# Altium integrated library WCAP-ASLU_rev15a.intlib: 55 symbols (part 1 of 2)
Pins are listed as number, name and electrical type; pins without a type are passive.

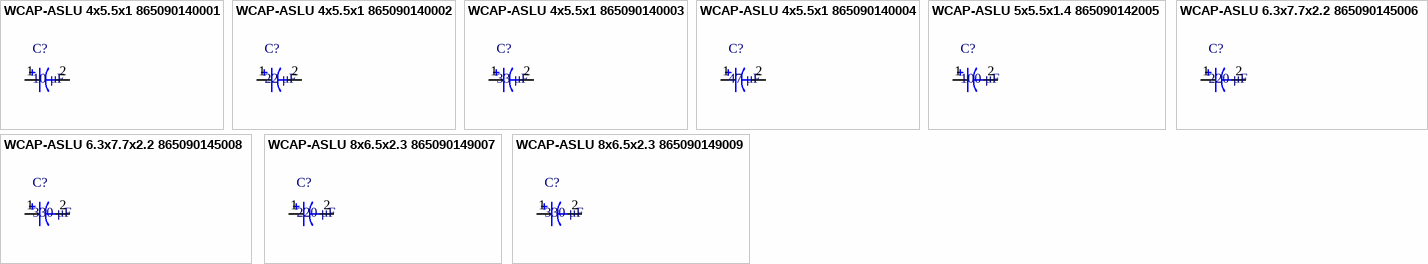
[diagram p0: symbols WCAP-ASLU 4x5.5x1 865090140001 to WCAP-ASLU 8x6.5x2.3 865090149009]

## WCAP-ASLU 4x5.5x1 865090140001
designator C?, comment 10 μF
WCAP-ASLU Aluminum Electrolytic Capacitors , 10 μF; + / - 20%; 6,3 V , 4 x 5,5; Manufacturer: Wurth Elektronik; partNo: 865090140001; E-mail: libraries@we-online.com; Characteristics: Aluminum Electrolytic Capacitor;Recommended soldering: Reflow;Operating temperature: –40 °C to +85 °C;Low leakage current product series;Load life: 1000 h @ +85 °C; ComponentLink1Description: Manufacturer; ComponentLink1URL: http://www.we-online.com; ComponentLink2Description: Datasheet; ComponentLink2URL: http://katalog.we-online.de/pbs/datasheet/865090140001.pdf; Created by: Karrer Zheng; Created Date: 5/13/2015; Capacitance: 10 μF; Application: Applied to loop with low requirements for leakage current, applied to general switching power supply, timer circuit, power module, DC-DC conversion adapter, charger, limited power supply of TV and VCR, audio equipment, digital TV, digital camera, digital video camera, satellite receiver.
footprint WCAP-ASLU 4x5.5x1
pins: 1, 2

## WCAP-ASLU 4x5.5x1 865090140002
designator C?, comment 22 μF
WCAP-ASLU Aluminum Electrolytic Capacitors , 22 μF; + / - 20%; 6,3 V , 4 x 5,5; Manufacturer: Wurth Elektronik; partNo: 865090140002; E-mail: libraries@we-online.com; Characteristics: Aluminum Electrolytic Capacitor;Recommended soldering: Reflow;Operating temperature: –40 °C to +85 °C;Low leakage current product series;Load life: 1000 h @ +85 °C; ComponentLink1Description: Manufacturer; ComponentLink1URL: http://www.we-online.com; ComponentLink2Description: Datasheet; ComponentLink2URL: http://katalog.we-online.de/pbs/datasheet/865090140002.pdf; Created by: Karrer Zheng; Created Date: 5/13/2015; Capacitance: 22 μF; Application: Applied to loop with low requirements for leakage current, applied to general switching power supply, timer circuit, power module, DC-DC conversion adapter, charger, limited power supply of TV and VCR, audio equipment, digital TV, digital camera, digital video camera, satellite receiver.
footprint WCAP-ASLU 4x5.5x1
pins: 1, 2

## WCAP-ASLU 4x5.5x1 865090140003
designator C?, comment 33 μF
WCAP-ASLU Aluminum Electrolytic Capacitors , 33 μF; + / - 20%; 6,3 V , 4 x 5,5; Manufacturer: Wurth Elektronik; partNo: 865090140003; E-mail: libraries@we-online.com; Characteristics: Aluminum Electrolytic Capacitor;Recommended soldering: Reflow;Operating temperature: –40 °C to +85 °C;Low leakage current product series;Load life: 1000 h @ +85 °C; ComponentLink1Description: Manufacturer; ComponentLink1URL: http://www.we-online.com; ComponentLink2Description: Datasheet; ComponentLink2URL: http://katalog.we-online.de/pbs/datasheet/865090140003.pdf; Created by: Karrer Zheng; Created Date: 5/13/2015; Capacitance: 33 μF; Application: Applied to loop with low requirements for leakage current, applied to general switching power supply, timer circuit, power module, DC-DC conversion adapter, charger, limited power supply of TV and VCR, audio equipment, digital TV, digital camera, digital video camera, satellite receiver.
footprint WCAP-ASLU 4x5.5x1
pins: 1, 2

## WCAP-ASLU 4x5.5x1 865090140004
designator C?, comment 47 μF
WCAP-ASLU Aluminum Electrolytic Capacitors , 47 μF; + / - 20%; 6,3 V , 4 x 5,5; Manufacturer: Wurth Elektronik; partNo: 865090140004; E-mail: libraries@we-online.com; Characteristics: Aluminum Electrolytic Capacitor;Recommended soldering: Reflow;Operating temperature: –40 °C to +85 °C;Low leakage current product series;Load life: 1000 h @ +85 °C; ComponentLink1Description: Manufacturer; ComponentLink1URL: http://www.we-online.com; ComponentLink2Description: Datasheet; ComponentLink2URL: http://katalog.we-online.de/pbs/datasheet/865090140004.pdf; Created by: Karrer Zheng; Created Date: 5/13/2015; Capacitance: 47 μF; Application: Applied to loop with low requirements for leakage current, applied to general switching power supply, timer circuit, power module, DC-DC conversion adapter, charger, limited power supply of TV and VCR, audio equipment, digital TV, digital camera, digital video camera, satellite receiver.
footprint WCAP-ASLU 4x5.5x1
pins: 1, 2

## WCAP-ASLU 5x5.5x1.4 865090142005
designator C?, comment 100 μF
WCAP-ASLU Aluminum Electrolytic Capacitors , 100 μF; + / - 20%; 6,3 V , 5 x 5,5; Manufacturer: Wurth Elektronik; partNo: 865090142005; E-mail: libraries@we-online.com; Characteristics: Aluminum Electrolytic Capacitor;Recommended soldering: Reflow;Operating temperature: –40 °C to +85 °C;Low leakage current product series;Load life: 1000 h @ +85 °C; ComponentLink1Description: Manufacturer; ComponentLink1URL: http://www.we-online.com; ComponentLink2Description: Datasheet; ComponentLink2URL: http://katalog.we-online.de/pbs/datasheet/865090142005.pdf; Created by: Karrer Zheng; Created Date: 5/13/2015; Capacitance: 100 μF; Application: Applied to loop with low requirements for leakage current, applied to general switching power supply, timer circuit, power module, DC-DC conversion adapter, charger, limited power supply of TV and VCR, audio equipment, digital TV, digital camera, digital video camera, satellite receiver.
footprint WCAP-ASLU 5x5.5x1.4
pins: 1, 2

## WCAP-ASLU 6.3x7.7x2.2 865090145006
designator C?, comment 220 μF
WCAP-ASLU Aluminum Electrolytic Capacitors , 220 μF; + / - 20%; 6,3 V , 6,3 x 7,7; Manufacturer: Wurth Elektronik; partNo: 865090145006; E-mail: libraries@we-online.com; Characteristics: Aluminum Electrolytic Capacitor;Recommended soldering: Reflow;Operating temperature: –40 °C to +85 °C;Low leakage current product series;Load life: 1000 h @ +85 °C; ComponentLink1Description: Manufacturer; ComponentLink1URL: http://www.we-online.com; ComponentLink2Description: Datasheet; ComponentLink2URL: http://katalog.we-online.de/pbs/datasheet/865090145006.pdf; Created by: Karrer Zheng; Created Date: 5/13/2015; Capacitance: 220 μF; Application: Applied to loop with low requirements for leakage current, applied to general switching power supply, timer circuit, power module, DC-DC conversion adapter, charger, limited power supply of TV and VCR, audio equipment, digital TV, digital camera, digital video camera, satellite receiver.
footprint WCAP-ASLU 6.3x7.7x2.2
pins: 1, 2

## WCAP-ASLU 6.3x7.7x2.2 865090145008
designator C?, comment 330 μF
WCAP-ASLU Aluminum Electrolytic Capacitors , 330 μF; + / - 20%; 6,3 V , 6,3 x 7,7; Manufacturer: Wurth Elektronik; partNo: 865090145008; E-mail: libraries@we-online.com; Characteristics: Aluminum Electrolytic Capacitor;Recommended soldering: Reflow;Operating temperature: –40 °C to +85 °C;Low leakage current product series;Load life: 1000 h @ +85 °C; ComponentLink1Description: Manufacturer; ComponentLink1URL: http://www.we-online.com; ComponentLink2Description: Datasheet; ComponentLink2URL: http://katalog.we-online.de/pbs/datasheet/865090145008.pdf; Created by: Karrer Zheng; Created Date: 5/13/2015; Capacitance: 330 μF; Application: Applied to loop with low requirements for leakage current, applied to general switching power supply, timer circuit, power module, DC-DC conversion adapter, charger, limited power supply of TV and VCR, audio equipment, digital TV, digital camera, digital video camera, satellite receiver.
footprint WCAP-ASLU 6.3x7.7x2.2
pins: 1, 2

## WCAP-ASLU 8x6.5x2.3 865090149007
designator C?, comment 220 μF
WCAP-ASLU Aluminum Electrolytic Capacitors , 220 μF; + / - 20%; 6,3 V , 8 x 6,5; Manufacturer: Wurth Elektronik; partNo: 865090149007; E-mail: libraries@we-online.com; Characteristics: Aluminum Electrolytic Capacitor;Recommended soldering: Reflow;Operating temperature: –40 °C to +85 °C;Low leakage current product series;Load life: 1000 h @ +85 °C; ComponentLink1Description: Manufacturer; ComponentLink1URL: http://www.we-online.com; ComponentLink2Description: Datasheet; ComponentLink2URL: http://katalog.we-online.de/pbs/datasheet/865090149007.pdf; Created by: Karrer Zheng; Created Date: 5/13/2015; Capacitance: 220 μF; Application: Applied to loop with low requirements for leakage current, applied to general switching power supply, timer circuit, power module, DC-DC conversion adapter, charger, limited power supply of TV and VCR, audio equipment, digital TV, digital camera, digital video camera, satellite receiver.
footprint WCAP-ASLU 8x6.5x2.3
pins: 1, 2

## WCAP-ASLU 8x6.5x2.3 865090149009
designator C?, comment 330 μF
WCAP-ASLU Aluminum Electrolytic Capacitors , 330 μF; + / - 20%; 6,3 V , 8 x 6,5; Manufacturer: Wurth Elektronik; partNo: 865090149009; E-mail: libraries@we-online.com; Characteristics: Aluminum Electrolytic Capacitor;Recommended soldering: Reflow;Operating temperature: –40 °C to +85 °C;Low leakage current product series;Load life: 1000 h @ +85 °C; ComponentLink1Description: Manufacturer; ComponentLink1URL: http://www.we-online.com; ComponentLink2Description: Datasheet; ComponentLink2URL: http://katalog.we-online.de/pbs/datasheet/865090149009.pdf; Created by: Karrer Zheng; Created Date: 5/13/2015; Capacitance: 330 μF; Application: Applied to loop with low requirements for leakage current, applied to general switching power supply, timer circuit, power module, DC-DC conversion adapter, charger, limited power supply of TV and VCR, audio equipment, digital TV, digital camera, digital video camera, satellite receiver.
footprint WCAP-ASLU 8x6.5x2.3
pins: 1, 2


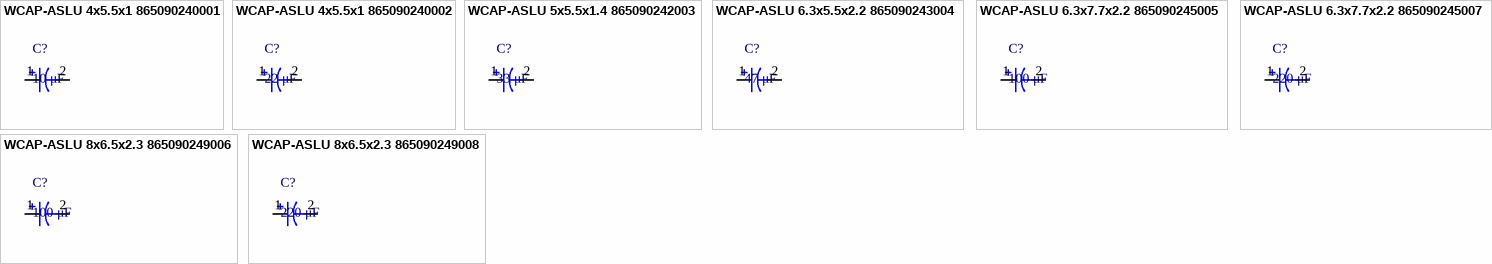
[diagram p1: symbols WCAP-ASLU 4x5.5x1 865090240001 to WCAP-ASLU 8x6.5x2.3 865090249008]

## WCAP-ASLU 4x5.5x1 865090240001
designator C?, comment 10 μF
WCAP-ASLU Aluminum Electrolytic Capacitors , 10 μF; + / - 20%; 10 V , 4 x 5,5; Manufacturer: Wurth Elektronik; partNo: 865090240001; E-mail: libraries@we-online.com; Characteristics: Aluminum Electrolytic Capacitor;Recommended soldering: Reflow;Operating temperature: –40 °C to +85 °C;Low leakage current product series;Load life: 1000 h @ +85 °C; ComponentLink1Description: Manufacturer; ComponentLink1URL: http://www.we-online.com; ComponentLink2Description: Datasheet; ComponentLink2URL: http://katalog.we-online.de/pbs/datasheet/865090240001.pdf; Created by: Karrer Zheng; Created Date: 5/13/2015; Capacitance: 10 μF; Application: Applied to loop with low requirements for leakage current, applied to general switching power supply, timer circuit, power module, DC-DC conversion adapter, charger, limited power supply of TV and VCR, audio equipment, digital TV, digital camera, digital video camera, satellite receiver.
footprint WCAP-ASLU 4x5.5x1
pins: 1, 2

## WCAP-ASLU 4x5.5x1 865090240002
designator C?, comment 22 μF
WCAP-ASLU Aluminum Electrolytic Capacitors , 22 μF; + / - 20%; 10 V , 4 x 5,5; Manufacturer: Wurth Elektronik; partNo: 865090240002; E-mail: libraries@we-online.com; Characteristics: Aluminum Electrolytic Capacitor;Recommended soldering: Reflow;Operating temperature: –40 °C to +85 °C;Low leakage current product series;Load life: 1000 h @ +85 °C; ComponentLink1Description: Manufacturer; ComponentLink1URL: http://www.we-online.com; ComponentLink2Description: Datasheet; ComponentLink2URL: http://katalog.we-online.de/pbs/datasheet/865090240002.pdf; Created by: Karrer Zheng; Created Date: 5/13/2015; Capacitance: 22 μF; Application: Applied to loop with low requirements for leakage current, applied to general switching power supply, timer circuit, power module, DC-DC conversion adapter, charger, limited power supply of TV and VCR, audio equipment, digital TV, digital camera, digital video camera, satellite receiver.
footprint WCAP-ASLU 4x5.5x1
pins: 1, 2

## WCAP-ASLU 5x5.5x1.4 865090242003
designator C?, comment 33 μF
WCAP-ASLU Aluminum Electrolytic Capacitors , 33 μF; + / - 20%; 10 V , 5 x 5,5; Manufacturer: Wurth Elektronik; partNo: 865090242003; E-mail: libraries@we-online.com; Characteristics: Aluminum Electrolytic Capacitor;Recommended soldering: Reflow;Operating temperature: –40 °C to +85 °C;Low leakage current product series;Load life: 1000 h @ +85 °C; ComponentLink1Description: Manufacturer; ComponentLink1URL: http://www.we-online.com; ComponentLink2Description: Datasheet; ComponentLink2URL: http://katalog.we-online.de/pbs/datasheet/865090242003.pdf; Created by: Karrer Zheng; Created Date: 5/13/2015; Capacitance: 33 μF; Application: Applied to loop with low requirements for leakage current, applied to general switching power supply, timer circuit, power module, DC-DC conversion adapter, charger, limited power supply of TV and VCR, audio equipment, digital TV, digital camera, digital video camera, satellite receiver.
footprint WCAP-ASLU 5x5.5x1.4
pins: 1, 2

## WCAP-ASLU 6.3x5.5x2.2 865090243004
designator C?, comment 47 μF
WCAP-ASLU Aluminum Electrolytic Capacitors , 47 μF; + / - 20%; 10 V , 6,3 x 5,5; Manufacturer: Wurth Elektronik; partNo: 865090243004; E-mail: libraries@we-online.com; Characteristics: Aluminum Electrolytic Capacitor;Recommended soldering: Reflow;Operating temperature: –40 °C to +85 °C;Low leakage current product series;Load life: 1000 h @ +85 °C; ComponentLink1Description: Manufacturer; ComponentLink1URL: http://www.we-online.com; ComponentLink2Description: Datasheet; ComponentLink2URL: http://katalog.we-online.de/pbs/datasheet/865090243004.pdf; Created by: Karrer Zheng; Created Date: 5/13/2015; Capacitance: 47 μF; Application: Applied to loop with low requirements for leakage current, applied to general switching power supply, timer circuit, power module, DC-DC conversion adapter, charger, limited power supply of TV and VCR, audio equipment, digital TV, digital camera, digital video camera, satellite receiver.
footprint WCAP-ASLU 6.3x5.5x2.2
pins: 1, 2

## WCAP-ASLU 6.3x7.7x2.2 865090245005
designator C?, comment 100 μF
WCAP-ASLU Aluminum Electrolytic Capacitors , 100 μF; + / - 20%; 10 V , 6,3 x 7,7; Manufacturer: Wurth Elektronik; partNo: 865090245005; E-mail: libraries@we-online.com; Characteristics: Aluminum Electrolytic Capacitor;Recommended soldering: Reflow;Operating temperature: –40 °C to +85 °C;Low leakage current product series;Load life: 1000 h @ +85 °C; ComponentLink1Description: Manufacturer; ComponentLink1URL: http://www.we-online.com; ComponentLink2Description: Datasheet; ComponentLink2URL: http://katalog.we-online.de/pbs/datasheet/865090245005.pdf; Created by: Karrer Zheng; Created Date: 5/13/2015; Capacitance: 100 μF; Application: Applied to loop with low requirements for leakage current, applied to general switching power supply, timer circuit, power module, DC-DC conversion adapter, charger, limited power supply of TV and VCR, audio equipment, digital TV, digital camera, digital video camera, satellite receiver.
footprint WCAP-ASLU 6.3x7.7x2.2
pins: 1, 2

## WCAP-ASLU 6.3x7.7x2.2 865090245007
designator C?, comment 220 μF
WCAP-ASLU Aluminum Electrolytic Capacitors , 220 μF; + / - 20%; 10 V , 6,3 x 7,7; Manufacturer: Wurth Elektronik; partNo: 865090245007; E-mail: libraries@we-online.com; Characteristics: Aluminum Electrolytic Capacitor;Recommended soldering: Reflow;Operating temperature: –40 °C to +85 °C;Low leakage current product series;Load life: 1000 h @ +85 °C; ComponentLink1Description: Manufacturer; ComponentLink1URL: http://www.we-online.com; ComponentLink2Description: Datasheet; ComponentLink2URL: http://katalog.we-online.de/pbs/datasheet/865090245007.pdf; Created by: Karrer Zheng; Created Date: 5/13/2015; Capacitance: 220 μF; Application: Applied to loop with low requirements for leakage current, applied to general switching power supply, timer circuit, power module, DC-DC conversion adapter, charger, limited power supply of TV and VCR, audio equipment, digital TV, digital camera, digital video camera, satellite receiver.
footprint WCAP-ASLU 6.3x7.7x2.2
pins: 1, 2

## WCAP-ASLU 8x6.5x2.3 865090249006
designator C?, comment 100 μF
WCAP-ASLU Aluminum Electrolytic Capacitors , 100 μF; + / - 20%; 10 V , 8 x 6,5; Manufacturer: Wurth Elektronik; partNo: 865090249006; E-mail: libraries@we-online.com; Characteristics: Aluminum Electrolytic Capacitor;Recommended soldering: Reflow;Operating temperature: –40 °C to +85 °C;Low leakage current product series;Load life: 1000 h @ +85 °C; ComponentLink1Description: Manufacturer; ComponentLink1URL: http://www.we-online.com; ComponentLink2Description: Datasheet; ComponentLink2URL: http://katalog.we-online.de/pbs/datasheet/865090249006.pdf; Created by: Karrer Zheng; Created Date: 5/13/2015; Capacitance: 100 μF; Application: Applied to loop with low requirements for leakage current, applied to general switching power supply, timer circuit, power module, DC-DC conversion adapter, charger, limited power supply of TV and VCR, audio equipment, digital TV, digital camera, digital video camera, satellite receiver.
footprint WCAP-ASLU 8x6.5x2.3
pins: 1, 2

## WCAP-ASLU 8x6.5x2.3 865090249008
designator C?, comment 220 μF
WCAP-ASLU Aluminum Electrolytic Capacitors , 220 μF; + / - 20%; 10 V , 8 x 6,5; Manufacturer: Wurth Elektronik; partNo: 865090249008; E-mail: libraries@we-online.com; Characteristics: Aluminum Electrolytic Capacitor;Recommended soldering: Reflow;Operating temperature: –40 °C to +85 °C;Low leakage current product series;Load life: 1000 h @ +85 °C; ComponentLink1Description: Manufacturer; ComponentLink1URL: http://www.we-online.com; ComponentLink2Description: Datasheet; ComponentLink2URL: http://katalog.we-online.de/pbs/datasheet/865090249008.pdf; Created by: Karrer Zheng; Created Date: 5/13/2015; Capacitance: 220 μF; Application: Applied to loop with low requirements for leakage current, applied to general switching power supply, timer circuit, power module, DC-DC conversion adapter, charger, limited power supply of TV and VCR, audio equipment, digital TV, digital camera, digital video camera, satellite receiver.
footprint WCAP-ASLU 8x6.5x2.3
pins: 1, 2


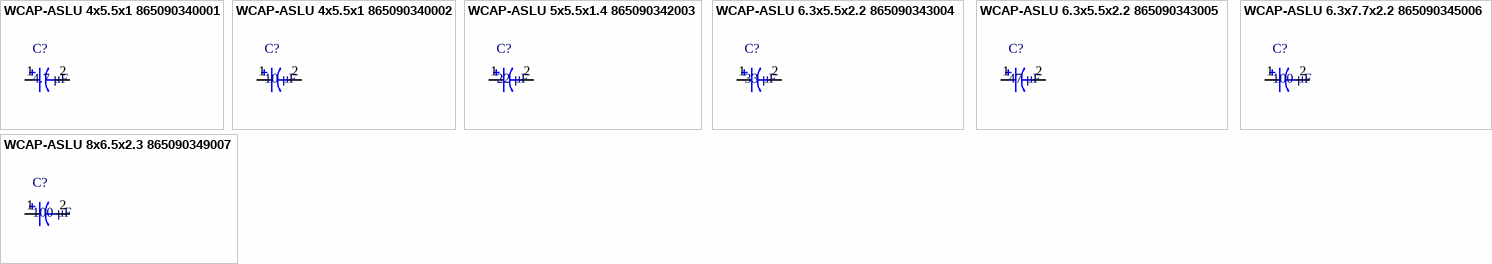
[diagram p2: symbols WCAP-ASLU 4x5.5x1 865090340001 to WCAP-ASLU 8x6.5x2.3 865090349007]

## WCAP-ASLU 4x5.5x1 865090340001
designator C?, comment 4.7 μF
WCAP-ASLU Aluminum Electrolytic Capacitors , 4,7 μF; + / - 20%; 16 V , 4 x 5,5; Manufacturer: Wurth Elektronik; partNo: 865090340001; E-mail: libraries@we-online.com; Characteristics: Aluminum Electrolytic Capacitor;Recommended soldering: Reflow;Operating temperature: –40 °C to +85 °C;Low leakage current product series;Load life: 1000 h @ +85 °C; ComponentLink1Description: Manufacturer; ComponentLink1URL: http://www.we-online.com; ComponentLink2Description: Datasheet; ComponentLink2URL: http://katalog.we-online.de/pbs/datasheet/865090340001.pdf; Created by: Karrer Zheng; Created Date: 5/13/2015; Capacitance: 4.7 μF; Application: Applied to loop with low requirements for leakage current, applied to general switching power supply, timer circuit, power module, DC-DC conversion adapter, charger, limited power supply of TV and VCR, audio equipment, digital TV, digital camera, digital video camera, satellite receiver.
footprint WCAP-ASLU 4x5.5x1
pins: 1, 2

## WCAP-ASLU 4x5.5x1 865090340002
designator C?, comment 10 μF
WCAP-ASLU Aluminum Electrolytic Capacitors , 10 μF; + / - 20%; 16 V , 4 x 5,5; Manufacturer: Wurth Elektronik; partNo: 865090340002; E-mail: libraries@we-online.com; Characteristics: Aluminum Electrolytic Capacitor;Recommended soldering: Reflow;Operating temperature: –40 °C to +85 °C;Low leakage current product series;Load life: 1000 h @ +85 °C; ComponentLink1Description: Manufacturer; ComponentLink1URL: http://www.we-online.com; ComponentLink2Description: Datasheet; ComponentLink2URL: http://katalog.we-online.de/pbs/datasheet/865090340002.pdf; Created by: Karrer Zheng; Created Date: 5/13/2015; Capacitance: 10 μF; Application: Applied to loop with low requirements for leakage current, applied to general switching power supply, timer circuit, power module, DC-DC conversion adapter, charger, limited power supply of TV and VCR, audio equipment, digital TV, digital camera, digital video camera, satellite receiver.
footprint WCAP-ASLU 4x5.5x1
pins: 1, 2

## WCAP-ASLU 5x5.5x1.4 865090342003
designator C?, comment 22 μF
WCAP-ASLU Aluminum Electrolytic Capacitors , 22 μF; + / - 20%; 16 V , 5 x 5,5; Manufacturer: Wurth Elektronik; partNo: 865090342003; E-mail: libraries@we-online.com; Characteristics: Aluminum Electrolytic Capacitor;Recommended soldering: Reflow;Operating temperature: –40 °C to +85 °C;Low leakage current product series;Load life: 1000 h @ +85 °C; ComponentLink1Description: Manufacturer; ComponentLink1URL: http://www.we-online.com; ComponentLink2Description: Datasheet; ComponentLink2URL: http://katalog.we-online.de/pbs/datasheet/865090342003.pdf; Created by: Karrer Zheng; Created Date: 5/13/2015; Capacitance: 22 μF; Application: Applied to loop with low requirements for leakage current, applied to general switching power supply, timer circuit, power module, DC-DC conversion adapter, charger, limited power supply of TV and VCR, audio equipment, digital TV, digital camera, digital video camera, satellite receiver.
footprint WCAP-ASLU 5x5.5x1.4
pins: 1, 2

## WCAP-ASLU 6.3x5.5x2.2 865090343004
designator C?, comment 33 μF
WCAP-ASLU Aluminum Electrolytic Capacitors , 33 μF; + / - 20%; 16 V , 6,3 x 5,5; Manufacturer: Wurth Elektronik; partNo: 865090343004; E-mail: libraries@we-online.com; Characteristics: Aluminum Electrolytic Capacitor;Recommended soldering: Reflow;Operating temperature: –40 °C to +85 °C;Low leakage current product series;Load life: 1000 h @ +85 °C; ComponentLink1Description: Manufacturer; ComponentLink1URL: http://www.we-online.com; ComponentLink2Description: Datasheet; ComponentLink2URL: http://katalog.we-online.de/pbs/datasheet/865090343004.pdf; Created by: Karrer Zheng; Created Date: 5/13/2015; Capacitance: 33 μF; Application: Applied to loop with low requirements for leakage current, applied to general switching power supply, timer circuit, power module, DC-DC conversion adapter, charger, limited power supply of TV and VCR, audio equipment, digital TV, digital camera, digital video camera, satellite receiver.
footprint WCAP-ASLU 6.3x5.5x2.2
pins: 1, 2

## WCAP-ASLU 6.3x5.5x2.2 865090343005
designator C?, comment 47 μF
WCAP-ASLU Aluminum Electrolytic Capacitors , 47 μF; + / - 20%; 16 V , 6,3 x 5,5; Manufacturer: Wurth Elektronik; partNo: 865090343005; E-mail: libraries@we-online.com; Characteristics: Aluminum Electrolytic Capacitor;Recommended soldering: Reflow;Operating temperature: –40 °C to +85 °C;Low leakage current product series;Load life: 1000 h @ +85 °C; ComponentLink1Description: Manufacturer; ComponentLink1URL: http://www.we-online.com; ComponentLink2Description: Datasheet; ComponentLink2URL: http://katalog.we-online.de/pbs/datasheet/865090343005.pdf; Created by: Karrer Zheng; Created Date: 5/13/2015; Capacitance: 47 μF; Application: Applied to loop with low requirements for leakage current, applied to general switching power supply, timer circuit, power module, DC-DC conversion adapter, charger, limited power supply of TV and VCR, audio equipment, digital TV, digital camera, digital video camera, satellite receiver.
footprint WCAP-ASLU 6.3x5.5x2.2
pins: 1, 2

## WCAP-ASLU 6.3x7.7x2.2 865090345006
designator C?, comment 100 μF
WCAP-ASLU Aluminum Electrolytic Capacitors , 100 μF; + / - 20%; 16 V , 6,3 x 7,7; Manufacturer: Wurth Elektronik; partNo: 865090345006; E-mail: libraries@we-online.com; Characteristics: Aluminum Electrolytic Capacitor;Recommended soldering: Reflow;Operating temperature: –40 °C to +85 °C;Low leakage current product series;Load life: 1000 h @ +85 °C; ComponentLink1Description: Manufacturer; ComponentLink1URL: http://www.we-online.com; ComponentLink2Description: Datasheet; ComponentLink2URL: http://katalog.we-online.de/pbs/datasheet/865090345006.pdf; Created by: Karrer Zheng; Created Date: 5/13/2015; Capacitance: 100 μF; Application: Applied to loop with low requirements for leakage current, applied to general switching power supply, timer circuit, power module, DC-DC conversion adapter, charger, limited power supply of TV and VCR, audio equipment, digital TV, digital camera, digital video camera, satellite receiver.
footprint WCAP-ASLU 6.3x7.7x2.2
pins: 1, 2

## WCAP-ASLU 8x6.5x2.3 865090349007
designator C?, comment 100 μF
WCAP-ASLU Aluminum Electrolytic Capacitors , 100 μF; + / - 20%; 16 V , 8 x 6,5; Manufacturer: Wurth Elektronik; partNo: 865090349007; E-mail: libraries@we-online.com; Characteristics: Aluminum Electrolytic Capacitor;Recommended soldering: Reflow;Operating temperature: –40 °C to +85 °C;Low leakage current product series;Load life: 1000 h @ +85 °C; ComponentLink1Description: Manufacturer; ComponentLink1URL: http://www.we-online.com; ComponentLink2Description: Datasheet; ComponentLink2URL: http://katalog.we-online.de/pbs/datasheet/865090349007.pdf; Created by: Karrer Zheng; Created Date: 5/13/2015; Capacitance: 100 μF; Application: Applied to loop with low requirements for leakage current, applied to general switching power supply, timer circuit, power module, DC-DC conversion adapter, charger, limited power supply of TV and VCR, audio equipment, digital TV, digital camera, digital video camera, satellite receiver.
footprint WCAP-ASLU 8x6.5x2.3
pins: 1, 2


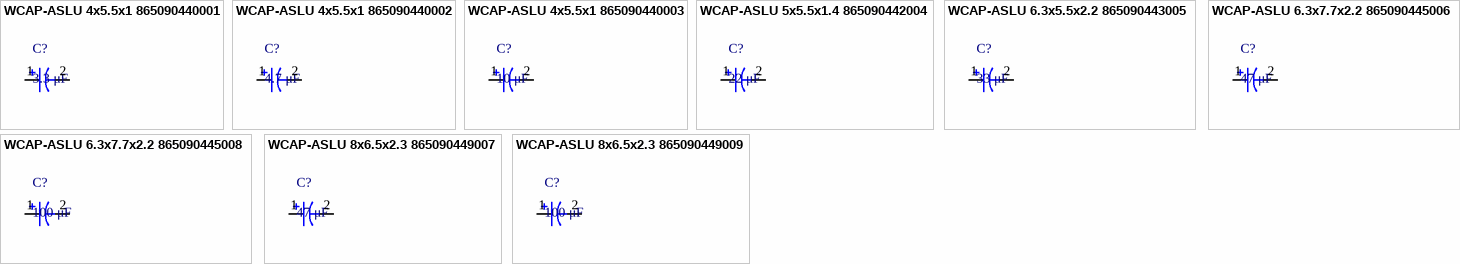
[diagram p3: symbols WCAP-ASLU 4x5.5x1 865090440001 to WCAP-ASLU 8x6.5x2.3 865090449009]

## WCAP-ASLU 4x5.5x1 865090440001
designator C?, comment 3.3 μF
WCAP-ASLU Aluminum Electrolytic Capacitors , 3,3 μF; + / - 20%; 25 V , 4 x 5,5; Manufacturer: Wurth Elektronik; partNo: 865090440001; E-mail: libraries@we-online.com; Characteristics: Aluminum Electrolytic Capacitor;Recommended soldering: Reflow;Operating temperature: –40 °C to +85 °C;Low leakage current product series;Load life: 1000 h @ +85 °C; ComponentLink1Description: Manufacturer; ComponentLink1URL: http://www.we-online.com; ComponentLink2Description: Datasheet; ComponentLink2URL: http://katalog.we-online.de/pbs/datasheet/865090440001.pdf; Created by: Karrer Zheng; Created Date: 5/13/2015; Capacitance: 3.3 μF; Application: Applied to loop with low requirements for leakage current, applied to general switching power supply, timer circuit, power module, DC-DC conversion adapter, charger, limited power supply of TV and VCR, audio equipment, digital TV, digital camera, digital video camera, satellite receiver.
footprint WCAP-ASLU 4x5.5x1
pins: 1, 2

## WCAP-ASLU 4x5.5x1 865090440002
designator C?, comment 4.7 μF
WCAP-ASLU Aluminum Electrolytic Capacitors , 4,7 μF; + / - 20%; 25 V , 4 x 5,5; Manufacturer: Wurth Elektronik; partNo: 865090440002; E-mail: libraries@we-online.com; Characteristics: Aluminum Electrolytic Capacitor;Recommended soldering: Reflow;Operating temperature: –40 °C to +85 °C;Low leakage current product series;Load life: 1000 h @ +85 °C; ComponentLink1Description: Manufacturer; ComponentLink1URL: http://www.we-online.com; ComponentLink2Description: Datasheet; ComponentLink2URL: http://katalog.we-online.de/pbs/datasheet/865090440002.pdf; Created by: Karrer Zheng; Created Date: 5/13/2015; Capacitance: 4.7 μF; Application: Applied to loop with low requirements for leakage current, applied to general switching power supply, timer circuit, power module, DC-DC conversion adapter, charger, limited power supply of TV and VCR, audio equipment, digital TV, digital camera, digital video camera, satellite receiver.
footprint WCAP-ASLU 4x5.5x1
pins: 1, 2

## WCAP-ASLU 4x5.5x1 865090440003
designator C?, comment 10 μF
WCAP-ASLU Aluminum Electrolytic Capacitors , 10 μF; + / - 20%; 25 V , 4 x 5,5; Manufacturer: Wurth Elektronik; partNo: 865090440003; E-mail: libraries@we-online.com; Characteristics: Aluminum Electrolytic Capacitor;Recommended soldering: Reflow;Operating temperature: –40 °C to +85 °C;Low leakage current product series;Load life: 1000 h @ +85 °C; ComponentLink1Description: Manufacturer; ComponentLink1URL: http://www.we-online.com; ComponentLink2Description: Datasheet; ComponentLink2URL: http://katalog.we-online.de/pbs/datasheet/865090440003.pdf; Created by: Karrer Zheng; Created Date: 5/13/2015; Capacitance: 10 μF; Application: Applied to loop with low requirements for leakage current, applied to general switching power supply, timer circuit, power module, DC-DC conversion adapter, charger, limited power supply of TV and VCR, audio equipment, digital TV, digital camera, digital video camera, satellite receiver.
footprint WCAP-ASLU 4x5.5x1
pins: 1, 2

## WCAP-ASLU 5x5.5x1.4 865090442004
designator C?, comment 22 μF
WCAP-ASLU Aluminum Electrolytic Capacitors , 22 μF; + / - 20%; 25 V , 5 x 5,5; Manufacturer: Wurth Elektronik; partNo: 865090442004; E-mail: libraries@we-online.com; Characteristics: Aluminum Electrolytic Capacitor;Recommended soldering: Reflow;Operating temperature: –40 °C to +85 °C;Low leakage current product series;Load life: 1000 h @ +85 °C; ComponentLink1Description: Manufacturer; ComponentLink1URL: http://www.we-online.com; ComponentLink2Description: Datasheet; ComponentLink2URL: http://katalog.we-online.de/pbs/datasheet/865090442004.pdf; Created by: Karrer Zheng; Created Date: 5/13/2015; Capacitance: 22 μF; Application: Applied to loop with low requirements for leakage current, applied to general switching power supply, timer circuit, power module, DC-DC conversion adapter, charger, limited power supply of TV and VCR, audio equipment, digital TV, digital camera, digital video camera, satellite receiver.
footprint WCAP-ASLU 5x5.5x1.4
pins: 1, 2

## WCAP-ASLU 6.3x5.5x2.2 865090443005
designator C?, comment 33 μF
WCAP-ASLU Aluminum Electrolytic Capacitors , 33 μF; + / - 20%; 25 V , 6,3 x 5,5; Manufacturer: Wurth Elektronik; partNo: 865090443005; E-mail: libraries@we-online.com; Characteristics: Aluminum Electrolytic Capacitor;Recommended soldering: Reflow;Operating temperature: –40 °C to +85 °C;Low leakage current product series;Load life: 1000 h @ +85 °C; ComponentLink1Description: Manufacturer; ComponentLink1URL: http://www.we-online.com; ComponentLink2Description: Datasheet; ComponentLink2URL: http://katalog.we-online.de/pbs/datasheet/865090443005.pdf; Created by: Karrer Zheng; Created Date: 5/13/2015; Capacitance: 33 μF; Application: Applied to loop with low requirements for leakage current, applied to general switching power supply, timer circuit, power module, DC-DC conversion adapter, charger, limited power supply of TV and VCR, audio equipment, digital TV, digital camera, digital video camera, satellite receiver.
footprint WCAP-ASLU 6.3x5.5x2.2
pins: 1, 2

## WCAP-ASLU 6.3x7.7x2.2 865090445006
designator C?, comment 47 μF
WCAP-ASLU Aluminum Electrolytic Capacitors , 47 μF; + / - 20%; 25 V , 6,3 x 7,7; Manufacturer: Wurth Elektronik; partNo: 865090445006; E-mail: libraries@we-online.com; Characteristics: Aluminum Electrolytic Capacitor;Recommended soldering: Reflow;Operating temperature: –40 °C to +85 °C;Low leakage current product series;Load life: 1000 h @ +85 °C; ComponentLink1Description: Manufacturer; ComponentLink1URL: http://www.we-online.com; ComponentLink2Description: Datasheet; ComponentLink2URL: http://katalog.we-online.de/pbs/datasheet/865090445006.pdf; Created by: Karrer Zheng; Created Date: 5/13/2015; Capacitance: 47 μF; Application: Applied to loop with low requirements for leakage current, applied to general switching power supply, timer circuit, power module, DC-DC conversion adapter, charger, limited power supply of TV and VCR, audio equipment, digital TV, digital camera, digital video camera, satellite receiver.
footprint WCAP-ASLU 6.3x7.7x2.2
pins: 1, 2

## WCAP-ASLU 6.3x7.7x2.2 865090445008
designator C?, comment 100 μF
WCAP-ASLU Aluminum Electrolytic Capacitors , 100 μF; + / - 20%; 25 V , 6,3 x 7,7; Manufacturer: Wurth Elektronik; partNo: 865090445008; E-mail: libraries@we-online.com; Characteristics: Aluminum Electrolytic Capacitor;Recommended soldering: Reflow;Operating temperature: –40 °C to +85 °C;Low leakage current product series;Load life: 1000 h @ +85 °C; ComponentLink1Description: Manufacturer; ComponentLink1URL: http://www.we-online.com; ComponentLink2Description: Datasheet; ComponentLink2URL: http://katalog.we-online.de/pbs/datasheet/865090445008.pdf; Created by: Karrer Zheng; Created Date: 5/13/2015; Capacitance: 100 μF; Application: Applied to loop with low requirements for leakage current, applied to general switching power supply, timer circuit, power module, DC-DC conversion adapter, charger, limited power supply of TV and VCR, audio equipment, digital TV, digital camera, digital video camera, satellite receiver.
footprint WCAP-ASLU 6.3x7.7x2.2
pins: 1, 2

## WCAP-ASLU 8x6.5x2.3 865090449007
designator C?, comment 47 μF
WCAP-ASLU Aluminum Electrolytic Capacitors , 47 μF; + / - 20%; 25 V , 8 x 6,5; Manufacturer: Wurth Elektronik; partNo: 865090449007; E-mail: libraries@we-online.com; Characteristics: Aluminum Electrolytic Capacitor;Recommended soldering: Reflow;Operating temperature: –40 °C to +85 °C;Low leakage current product series;Load life: 1000 h @ +85 °C; ComponentLink1Description: Manufacturer; ComponentLink1URL: http://www.we-online.com; ComponentLink2Description: Datasheet; ComponentLink2URL: http://katalog.we-online.de/pbs/datasheet/865090449007.pdf; Created by: Karrer Zheng; Created Date: 5/13/2015; Capacitance: 47 μF; Application: Applied to loop with low requirements for leakage current, applied to general switching power supply, timer circuit, power module, DC-DC conversion adapter, charger, limited power supply of TV and VCR, audio equipment, digital TV, digital camera, digital video camera, satellite receiver.
footprint WCAP-ASLU 8x6.5x2.3
pins: 1, 2

## WCAP-ASLU 8x6.5x2.3 865090449009
designator C?, comment 100 μF
WCAP-ASLU Aluminum Electrolytic Capacitors , 100 μF; + / - 20%; 25 V , 8 x 6,5; Manufacturer: Wurth Elektronik; partNo: 865090449009; E-mail: libraries@we-online.com; Characteristics: Aluminum Electrolytic Capacitor;Recommended soldering: Reflow;Operating temperature: –40 °C to +85 °C;Low leakage current product series;Load life: 1000 h @ +85 °C; ComponentLink1Description: Manufacturer; ComponentLink1URL: http://www.we-online.com; ComponentLink2Description: Datasheet; ComponentLink2URL: http://katalog.we-online.de/pbs/datasheet/865090449009.pdf; Created by: Karrer Zheng; Created Date: 5/13/2015; Capacitance: 100 μF; Application: Applied to loop with low requirements for leakage current, applied to general switching power supply, timer circuit, power module, DC-DC conversion adapter, charger, limited power supply of TV and VCR, audio equipment, digital TV, digital camera, digital video camera, satellite receiver.
footprint WCAP-ASLU 8x6.5x2.3
pins: 1, 2


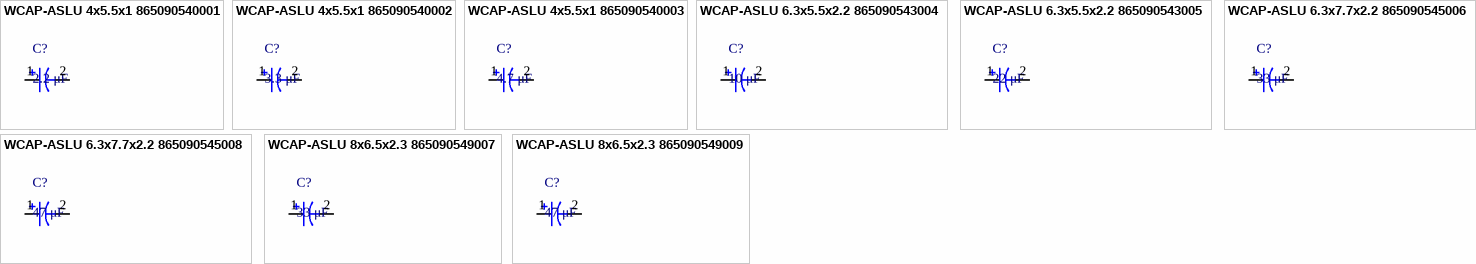
[diagram p4: symbols WCAP-ASLU 4x5.5x1 865090540001 to WCAP-ASLU 8x6.5x2.3 865090549009]

## WCAP-ASLU 4x5.5x1 865090540001
designator C?, comment 2.2 μF
WCAP-ASLU Aluminum Electrolytic Capacitors , 2,2 μF; + / - 20%; 35 V , 4 x 5,5; Manufacturer: Wurth Elektronik; partNo: 865090540001; E-mail: libraries@we-online.com; Characteristics: Aluminum Electrolytic Capacitor;Recommended soldering: Reflow;Operating temperature: –40 °C to +85 °C;Low leakage current product series;Load life: 1000 h @ +85 °C; ComponentLink1Description: Manufacturer; ComponentLink1URL: http://www.we-online.com; ComponentLink2Description: Datasheet; ComponentLink2URL: http://katalog.we-online.de/pbs/datasheet/865090540001.pdf; Created by: Karrer Zheng; Created Date: 5/13/2015; Capacitance: 2.2 μF; Application: Applied to loop with low requirements for leakage current, applied to general switching power supply, timer circuit, power module, DC-DC conversion adapter, charger, limited power supply of TV and VCR, audio equipment, digital TV, digital camera, digital video camera, satellite receiver.
footprint WCAP-ASLU 4x5.5x1
pins: 1, 2

## WCAP-ASLU 4x5.5x1 865090540002
designator C?, comment 3.3 μF
WCAP-ASLU Aluminum Electrolytic Capacitors , 3,3 μF; + / - 20%; 35 V , 4 x 5,5; Manufacturer: Wurth Elektronik; partNo: 865090540002; E-mail: libraries@we-online.com; Characteristics: Aluminum Electrolytic Capacitor;Recommended soldering: Reflow;Operating temperature: –40 °C to +85 °C;Low leakage current product series;Load life: 1000 h @ +85 °C; ComponentLink1Description: Manufacturer; ComponentLink1URL: http://www.we-online.com; ComponentLink2Description: Datasheet; ComponentLink2URL: http://katalog.we-online.de/pbs/datasheet/865090540002.pdf; Created by: Karrer Zheng; Created Date: 5/13/2015; Capacitance: 3.3 μF; Application: Applied to loop with low requirements for leakage current, applied to general switching power supply, timer circuit, power module, DC-DC conversion adapter, charger, limited power supply of TV and VCR, audio equipment, digital TV, digital camera, digital video camera, satellite receiver.
footprint WCAP-ASLU 4x5.5x1
pins: 1, 2

## WCAP-ASLU 4x5.5x1 865090540003
designator C?, comment 4.7 μF
WCAP-ASLU Aluminum Electrolytic Capacitors , 4,7 μF; + / - 20%; 35 V , 4 x 5,5; Manufacturer: Wurth Elektronik; partNo: 865090540003; E-mail: libraries@we-online.com; Characteristics: Aluminum Electrolytic Capacitor;Recommended soldering: Reflow;Operating temperature: –40 °C to +85 °C;Low leakage current product series;Load life: 1000 h @ +85 °C; ComponentLink1Description: Manufacturer; ComponentLink1URL: http://www.we-online.com; ComponentLink2Description: Datasheet; ComponentLink2URL: http://katalog.we-online.de/pbs/datasheet/865090540003.pdf; Created by: Karrer Zheng; Created Date: 5/13/2015; Capacitance: 4.7 μF; Application: Applied to loop with low requirements for leakage current, applied to general switching power supply, timer circuit, power module, DC-DC conversion adapter, charger, limited power supply of TV and VCR, audio equipment, digital TV, digital camera, digital video camera, satellite receiver.
footprint WCAP-ASLU 4x5.5x1
pins: 1, 2

## WCAP-ASLU 6.3x5.5x2.2 865090543004
designator C?, comment 10 μF
WCAP-ASLU Aluminum Electrolytic Capacitors , 10 μF; + / - 20%; 35 V , 6,3 x 5,5; Manufacturer: Wurth Elektronik; partNo: 865090543004; E-mail: libraries@we-online.com; Characteristics: Aluminum Electrolytic Capacitor;Recommended soldering: Reflow;Operating temperature: –40 °C to +85 °C;Low leakage current product series;Load life: 1000 h @ +85 °C; ComponentLink1Description: Manufacturer; ComponentLink1URL: http://www.we-online.com; ComponentLink2Description: Datasheet; ComponentLink2URL: http://katalog.we-online.de/pbs/datasheet/865090543004.pdf; Created by: Karrer Zheng; Created Date: 5/13/2015; Capacitance: 10 μF; Application: Applied to loop with low requirements for leakage current, applied to general switching power supply, timer circuit, power module, DC-DC conversion adapter, charger, limited power supply of TV and VCR, audio equipment, digital TV, digital camera, digital video camera, satellite receiver.
footprint WCAP-ASLU 6.3x5.5x2.2
pins: 1, 2

## WCAP-ASLU 6.3x5.5x2.2 865090543005
designator C?, comment 22 μF
WCAP-ASLU Aluminum Electrolytic Capacitors , 22 μF; + / - 20%; 35 V , 6,3 x 5,5; Manufacturer: Wurth Elektronik; partNo: 865090543005; E-mail: libraries@we-online.com; Characteristics: Aluminum Electrolytic Capacitor;Recommended soldering: Reflow;Operating temperature: –40 °C to +85 °C;Low leakage current product series;Load life: 1000 h @ +85 °C; ComponentLink1Description: Manufacturer; ComponentLink1URL: http://www.we-online.com; ComponentLink2Description: Datasheet; ComponentLink2URL: http://katalog.we-online.de/pbs/datasheet/865090543005.pdf; Created by: Karrer Zheng; Created Date: 5/13/2015; Capacitance: 22 μF; Application: Applied to loop with low requirements for leakage current, applied to general switching power supply, timer circuit, power module, DC-DC conversion adapter, charger, limited power supply of TV and VCR, audio equipment, digital TV, digital camera, digital video camera, satellite receiver.
footprint WCAP-ASLU 6.3x5.5x2.2
pins: 1, 2

## WCAP-ASLU 6.3x7.7x2.2 865090545006
designator C?, comment 33 μF
WCAP-ASLU Aluminum Electrolytic Capacitors , 33 μF; + / - 20%; 35 V , 6,3 x 7,7; Manufacturer: Wurth Elektronik; partNo: 865090545006; E-mail: libraries@we-online.com; Characteristics: Aluminum Electrolytic Capacitor;Recommended soldering: Reflow;Operating temperature: –40 °C to +85 °C;Low leakage current product series;Load life: 1000 h @ +85 °C; ComponentLink1Description: Manufacturer; ComponentLink1URL: http://www.we-online.com; ComponentLink2Description: Datasheet; ComponentLink2URL: http://katalog.we-online.de/pbs/datasheet/865090545006.pdf; Created by: Karrer Zheng; Created Date: 5/13/2015; Capacitance: 33 μF; Application: Applied to loop with low requirements for leakage current, applied to general switching power supply, timer circuit, power module, DC-DC conversion adapter, charger, limited power supply of TV and VCR, audio equipment, digital TV, digital camera, digital video camera, satellite receiver.
footprint WCAP-ASLU 6.3x7.7x2.2
pins: 1, 2

## WCAP-ASLU 6.3x7.7x2.2 865090545008
designator C?, comment 47 μF
WCAP-ASLU Aluminum Electrolytic Capacitors , 47 μF; + / - 20%; 35 V , 6,3 x 7,7; Manufacturer: Wurth Elektronik; partNo: 865090545008; E-mail: libraries@we-online.com; Characteristics: Aluminum Electrolytic Capacitor;Recommended soldering: Reflow;Operating temperature: –40 °C to +85 °C;Low leakage current product series;Load life: 1000 h @ +85 °C; ComponentLink1Description: Manufacturer; ComponentLink1URL: http://www.we-online.com; ComponentLink2Description: Datasheet; ComponentLink2URL: http://katalog.we-online.de/pbs/datasheet/865090545008.pdf; Created by: Karrer Zheng; Created Date: 5/13/2015; Capacitance: 47 μF; Application: Applied to loop with low requirements for leakage current, applied to general switching power supply, timer circuit, power module, DC-DC conversion adapter, charger, limited power supply of TV and VCR, audio equipment, digital TV, digital camera, digital video camera, satellite receiver.
footprint WCAP-ASLU 6.3x7.7x2.2
pins: 1, 2

## WCAP-ASLU 8x6.5x2.3 865090549007
designator C?, comment 33 μF
WCAP-ASLU Aluminum Electrolytic Capacitors , 33 μF; + / - 20%; 35 V , 8 x 6,5; Manufacturer: Wurth Elektronik; partNo: 865090549007; E-mail: libraries@we-online.com; Characteristics: Aluminum Electrolytic Capacitor;Recommended soldering: Reflow;Operating temperature: –40 °C to +85 °C;Low leakage current product series;Load life: 1000 h @ +85 °C; ComponentLink1Description: Manufacturer; ComponentLink1URL: http://www.we-online.com; ComponentLink2Description: Datasheet; ComponentLink2URL: http://katalog.we-online.de/pbs/datasheet/865090549007.pdf; Created by: Karrer Zheng; Created Date: 5/13/2015; Capacitance: 33 μF; Application: Applied to loop with low requirements for leakage current, applied to general switching power supply, timer circuit, power module, DC-DC conversion adapter, charger, limited power supply of TV and VCR, audio equipment, digital TV, digital camera, digital video camera, satellite receiver.
footprint WCAP-ASLU 8x6.5x2.3
pins: 1, 2

## WCAP-ASLU 8x6.5x2.3 865090549009
designator C?, comment 47 μF
WCAP-ASLU Aluminum Electrolytic Capacitors , 47 μF; + / - 20%; 35 V , 8 x 6,5; Manufacturer: Wurth Elektronik; partNo: 865090549009; E-mail: libraries@we-online.com; Characteristics: Aluminum Electrolytic Capacitor;Recommended soldering: Reflow;Operating temperature: –40 °C to +85 °C;Low leakage current product series;Load life: 1000 h @ +85 °C; ComponentLink1Description: Manufacturer; ComponentLink1URL: http://www.we-online.com; ComponentLink2Description: Datasheet; ComponentLink2URL: http://katalog.we-online.de/pbs/datasheet/865090549009.pdf; Created by: Karrer Zheng; Created Date: 5/13/2015; Capacitance: 47 μF; Application: Applied to loop with low requirements for leakage current, applied to general switching power supply, timer circuit, power module, DC-DC conversion adapter, charger, limited power supply of TV and VCR, audio equipment, digital TV, digital camera, digital video camera, satellite receiver.
footprint WCAP-ASLU 8x6.5x2.3
pins: 1, 2


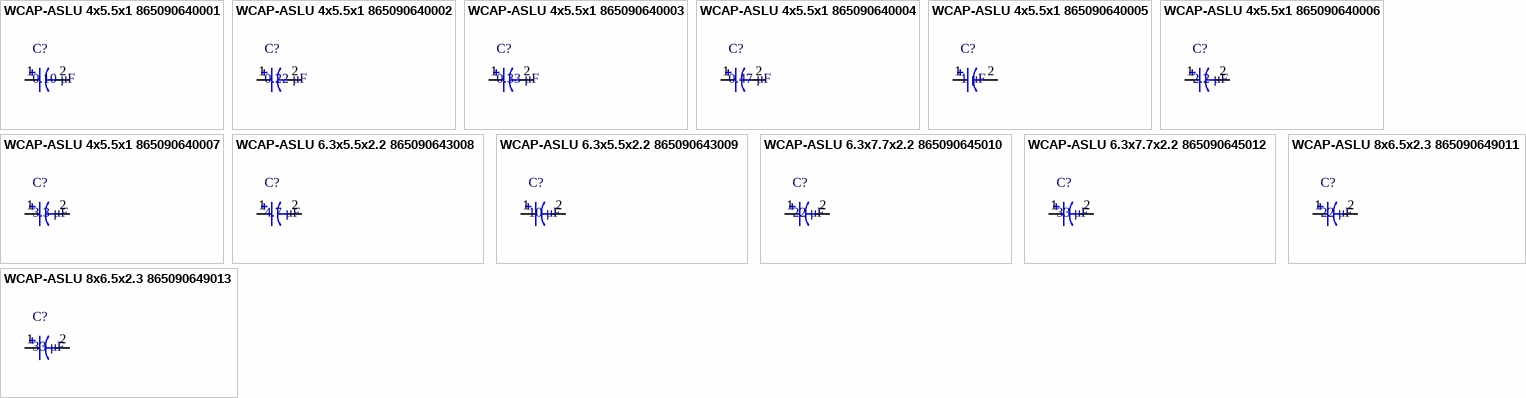
[diagram p5: symbols WCAP-ASLU 4x5.5x1 865090640001 to WCAP-ASLU 8x6.5x2.3 865090649013]

## WCAP-ASLU 4x5.5x1 865090640001
designator C?, comment 0.10 μF
WCAP-ASLU Aluminum Electrolytic Capacitors , 0,10 μF; + / - 20%; 50 V , 4 x 5,5; Manufacturer: Wurth Elektronik; partNo: 865090640001; E-mail: libraries@we-online.com; Characteristics: Aluminum Electrolytic Capacitor;Recommended soldering: Reflow;Operating temperature: –40 °C to +85 °C;Low leakage current product series;Load life: 1000 h @ +85 °C; ComponentLink1Description: Manufacturer; ComponentLink1URL: http://www.we-online.com; ComponentLink2Description: Datasheet; ComponentLink2URL: http://katalog.we-online.de/pbs/datasheet/865090640001.pdf; Created by: Karrer Zheng; Created Date: 5/13/2015; Capacitance: 0.10 μF; Application: Applied to loop with low requirements for leakage current, applied to general switching power supply, timer circuit, power module, DC-DC conversion adapter, charger, limited power supply of TV and VCR, audio equipment, digital TV, digital camera, digital video camera, satellite receiver.
footprint WCAP-ASLU 4x5.5x1
pins: 1, 2

## WCAP-ASLU 4x5.5x1 865090640002
designator C?, comment 0.22 μF
WCAP-ASLU Aluminum Electrolytic Capacitors , 0,22 μF; + / - 20%; 50 V , 4 x 5,5; Manufacturer: Wurth Elektronik; partNo: 865090640002; E-mail: libraries@we-online.com; Characteristics: Aluminum Electrolytic Capacitor;Recommended soldering: Reflow;Operating temperature: –40 °C to +85 °C;Low leakage current product series;Load life: 1000 h @ +85 °C; ComponentLink1Description: Manufacturer; ComponentLink1URL: http://www.we-online.com; ComponentLink2Description: Datasheet; ComponentLink2URL: http://katalog.we-online.de/pbs/datasheet/865090640002.pdf; Created by: Karrer Zheng; Created Date: 5/13/2015; Capacitance: 0.22 μF; Application: Applied to loop with low requirements for leakage current, applied to general switching power supply, timer circuit, power module, DC-DC conversion adapter, charger, limited power supply of TV and VCR, audio equipment, digital TV, digital camera, digital video camera, satellite receiver.
footprint WCAP-ASLU 4x5.5x1
pins: 1, 2

## WCAP-ASLU 4x5.5x1 865090640003
designator C?, comment 0.33 μF
WCAP-ASLU Aluminum Electrolytic Capacitors , 0,33 μF; + / - 20%; 50 V , 4 x 5,5; Manufacturer: Wurth Elektronik; partNo: 865090640003; E-mail: libraries@we-online.com; Characteristics: Aluminum Electrolytic Capacitor;Recommended soldering: Reflow;Operating temperature: –40 °C to +85 °C;Low leakage current product series;Load life: 1000 h @ +85 °C; ComponentLink1Description: Manufacturer; ComponentLink1URL: http://www.we-online.com; ComponentLink2Description: Datasheet; ComponentLink2URL: http://katalog.we-online.de/pbs/datasheet/865090640003.pdf; Created by: Karrer Zheng; Created Date: 5/13/2015; Capacitance: 0.33 μF; Application: Applied to loop with low requirements for leakage current, applied to general switching power supply, timer circuit, power module, DC-DC conversion adapter, charger, limited power supply of TV and VCR, audio equipment, digital TV, digital camera, digital video camera, satellite receiver.
footprint WCAP-ASLU 4x5.5x1
pins: 1, 2

## WCAP-ASLU 4x5.5x1 865090640004
designator C?, comment 0.47 μF
WCAP-ASLU Aluminum Electrolytic Capacitors , 0,47 μF; + / - 20%; 50 V , 4 x 5,5; Manufacturer: Wurth Elektronik; partNo: 865090640004; E-mail: libraries@we-online.com; Characteristics: Aluminum Electrolytic Capacitor;Recommended soldering: Reflow;Operating temperature: –40 °C to +85 °C;Low leakage current product series;Load life: 1000 h @ +85 °C; ComponentLink1Description: Manufacturer; ComponentLink1URL: http://www.we-online.com; ComponentLink2Description: Datasheet; ComponentLink2URL: http://katalog.we-online.de/pbs/datasheet/865090640004.pdf; Created by: Karrer Zheng; Created Date: 5/13/2015; Capacitance: 0.47 μF; Application: Applied to loop with low requirements for leakage current, applied to general switching power supply, timer circuit, power module, DC-DC conversion adapter, charger, limited power supply of TV and VCR, audio equipment, digital TV, digital camera, digital video camera, satellite receiver.
footprint WCAP-ASLU 4x5.5x1
pins: 1, 2

## WCAP-ASLU 4x5.5x1 865090640005
designator C?, comment 1 μF
WCAP-ASLU Aluminum Electrolytic Capacitors , 1 μF; + / - 20%; 50 V , 4 x 5,5; Manufacturer: Wurth Elektronik; partNo: 865090640005; E-mail: libraries@we-online.com; Characteristics: Aluminum Electrolytic Capacitor;Recommended soldering: Reflow;Operating temperature: –40 °C to +85 °C;Low leakage current product series;Load life: 1000 h @ +85 °C; ComponentLink1Description: Manufacturer; ComponentLink1URL: http://www.we-online.com; ComponentLink2Description: Datasheet; ComponentLink2URL: http://katalog.we-online.de/pbs/datasheet/865090640005.pdf; Created by: Karrer Zheng; Created Date: 5/13/2015; Capacitance: 1 μF; Application: Applied to loop with low requirements for leakage current, applied to general switching power supply, timer circuit, power module, DC-DC conversion adapter, charger, limited power supply of TV and VCR, audio equipment, digital TV, digital camera, digital video camera, satellite receiver.
footprint WCAP-ASLU 4x5.5x1
pins: 1, 2